# Altium schematic symbol library FT232RQ-REEL.SchLib: 2 symbols
Pins are listed as number, name and electrical type; pins without a type are passive.

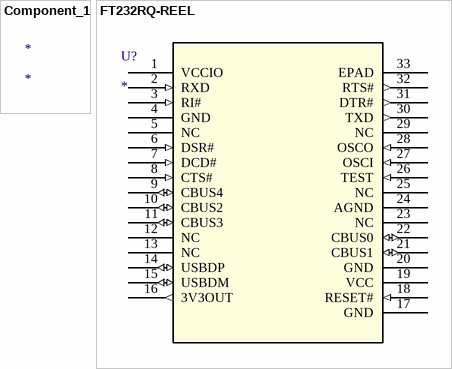
[diagram p0: symbols Component_1 to FT232RQ-REEL]

## Component_1
designator *

## FT232RQ-REEL
designator U?
No Description Available; Mfr_Name: FTDI, Future Technology Devices International Ltd; Type: Interface; RefDes: RefDes
footprint QFN32_FT232RQ_FTD
pins: 1 VCCIO (power), 2 RXD (in), 3 RI# (in), 4 GND (power), 5 NC, 6 DSR# (in), 7 DCD# (in), 8 CTS# (in), 9 CBUS4 (io), 10 CBUS2 (io), 11 CBUS3 (io), 12 NC, 13 NC, 14 USBDP (io), 15 USBDM (io), 16 3V3OUT (out), 17 GND (power), 18 RESET# (in), 19 VCC (power), 20 GND (power), 21 CBUS1 (io), 22 CBUS0 (io), 23 NC, 24 AGND (power), 25 NC, 26 TEST (in), 27 OSCI (in), 28 OSCO (in), 29 NC, 30 TXD (out), 31 DTR# (out), 32 RTS# (out), 33 EPAD (power)